# Altium integrated library BKIT_Nguyen_K22.IntLib: 34 symbols
Pins are listed as number, name and electrical type; pins without a type are passive.

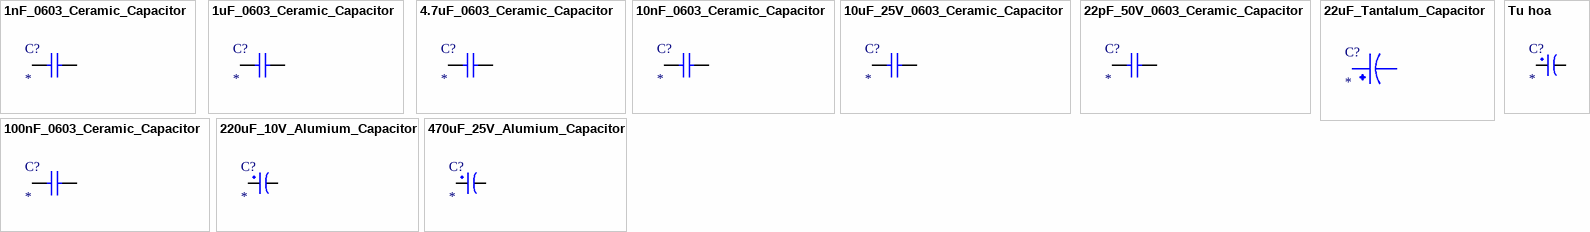
[diagram p0: symbols 1nF_0603_Ceramic_Capacitor to Tu hoa]

## 1nF_0603_Ceramic_Capacitor
designator C?
footprint CAP 0603
pins: 1, 2

## 1uF_0603_Ceramic_Capacitor
designator C?
footprint CAP 0603
pins: 1, 2

## 4.7uF_0603_Ceramic_Capacitor
designator C?
footprint CAP 0603
pins: 1, 2

## 10nF_0603_Ceramic_Capacitor
designator C?
footprint CAP 0603
pins: 1, 2

## 10uF_25V_0603_Ceramic_Capacitor
designator C?
footprint CAP 0603
pins: 1, 2

## 22pF_50V_0603_Ceramic_Capacitor
designator C?
footprint CAP 0603
pins: 1, 2

## 22uF_Tantalum_Capacitor
designator C?
footprint CAP POL 6032_280
pins: 1, 2

## 100nF_0603_Ceramic_Capacitor
designator C?
footprint CAP 0603
pins: 1, 2

## 220uF_10V_Alumium_Capacitor
designator C?
footprint CAP ALSMD 6.6MM H5.4MM (Aluminum Electrolytic Capacitor, Body 6.60x6.60x5.40mm, IPC Low Density)
pins: 1, 2

## 470uF_25V_Alumium_Capacitor
designator C?
footprint CAP ALSMD ELEC 10.3MM H10.5MM LEADSPANMAX10.9MM (Aluminum SMD Electrolytic Capacitor, 10.30mm Land Size, 10.00mm Diameter, 10.50mm Height, 10.90mm Maximum Leads Span)
pins: 1, 2

## Tu hoa
designator C?
footprint Tu Nhom 6.3 (D)
pins: 1, 2


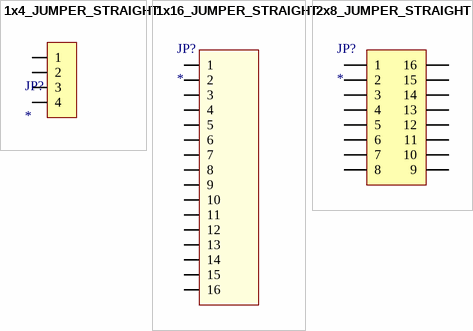
[diagram p1: symbols 1x4_JUMPER_STRAIGHT to 2x8_JUMPER_STRAIGHT]

## 1x4_JUMPER_STRAIGHT
designator JP?
footprint JP 1x4 CT
pins: 1, 2, 3, 4

## 1x16_JUMPER_STRAIGHT
designator JP?
footprint JP 1x16 CT
footprint JP 1x16 CT
pins: 1, 2, 3, 4, 5, 6, 7, 8, 9, 10, 11, 12, 13, 14, 15, 16

## 2x8_JUMPER_STRAIGHT
designator JP?
footprint JP 2X8 DT (16 pins, dual pin, straight, gold plating)
pins: 1, 2, 3, 4, 5, 6, 7, 8, 9, 10, 11, 12, 13, 14, 15, 16


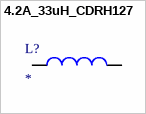
[diagram p2: symbol 4.2A_33uH_CDRH127]

## 4.2A_33uH_CDRH127
designator L?
footprint CDRH127
pins: 1, 2


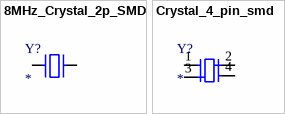
[diagram p3: symbols 8MHz_Crystal_2p_SMD to Crystal_4_pin_smd]

## 8MHz_Crystal_2p_SMD
designator Y?
footprint Thach Anh 2 Chan SMD (SMD Crystal HC49/US-SM package)
pins: 1, 2

## Crystal_4_pin_smd
designator Y?
footprint Thach Anh 4 chan 1 (SMD Crystal 4-lead leadless package)
pins: 1, 2, 3, 4


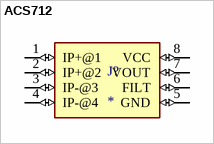
[diagram p4: symbol ACS712]

## ACS712
designator J?
Current Sensor 20A 1 Channel Hall Effect, Open Loop Bidirectional 8-SOIC (0.154, 3.90mm Width); MF: Allegro MicroSystems; MP: ACS712; SnapEDA_Link: https://www.snapeda.com/parts/ACS712/Allegro+MicroSystems+LLC/view-part/?ref=snap; Package: PowerWFQFN-12 Allegro MicroSystems LLC; Value: *; Check_prices: https://www.snapeda.com/parts/ACS712/Allegro+MicroSystems+LLC/view-part/?ref=eda
footprint SO08
pins: 1 IP+@1 (io), 2 IP+@2 (io), 3 IP-@3 (io), 4 IP-@4 (io), 5 GND (io), 6 FILT (io), 7 VOUT (io), 8 VCC (io)


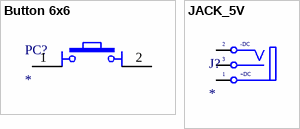
[diagram p5: symbols Button 6x6 to JACK_5V]

## Button 6x6
designator PC?
footprint Nut nhan 4 chan cam 6x6 (SW button 4pin, 250 x250 mil)
pins: 1, 2

## JACK_5V
designator J?
footprint JACK DC 5.5 (Jac DC input)
pins: 1 T "Tip", 2 TN "Tip Normal (Break Contact)", 3 S (power) "Sleeve (Ground)"
text: -DC; +DC


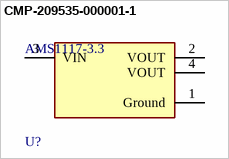
[diagram p6: symbol CMP-209535-000001-1]

## CMP-209535-000001-1
designator U?, comment AMS1117-3.3
LDO Voltage Regulators 1A, 3.3V; Manufacturer: Advanced Monolithic Systems; Dropout Voltage: 1.1V; Output Type: Fixed; Nominal Supply Current: 5mA; Max Power Dissipation: 1.2W; Max Supply Voltage: 15V; Number Of Outputs: 1; Standoff Height: 0.64mm; Max Junction Temp: +125°C; Height: 1.8mm; Package: AMS1117; Device Class L2: Power Management ICs; ComponentLink2Description: Datasheet; ComponentLink2URL: http://www.advanced-monolithic.com/pdf/ds1117.pdf; Category: IC; RoHS: TRUE; Automotive: No; Device Class L1: Integrated Circuits (ICs); Output Current: 1A; Device Class L3: Voltage Regulators - Linear; Temperature: -40°C to +125°C; Output Voltage: 3.3V; Manufacturer Part Number: AMS1117-3.3; Temperature Range Low: -40°C; Octopart: https://octopart.com/ams1117-3.3-advanced+monolithic+systems-25899300; Lead Free: Yes; Ipc Land Pattern Name: SOT229P700X180-4; Temperature Range High: +125°C
footprint FP-AMS1117-IPC_A
footprint FP-AMS1117-IPC_B
footprint FP-AMS1117-IPC_C
pins: 1 Ground (power), 2 VOUT, 3 VIN (power), 4 VOUT


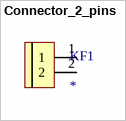
[diagram p7: symbol Connector_2_pins]

## Connector_2_pins
designator KF1
footprint CON2_P196_1729128_TH_ST (Terminal Block)
pins: 1, 2


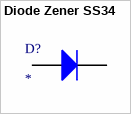
[diagram p8: symbol Diode Zener SS34]

## Diode Zener SS34
designator D?
footprint CAPMP4226X24N (Molded Capacitor, 2-Leads, Body 4.25x2.60mm, IPC Medium Density)
pins: 1, 2


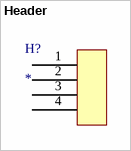
[diagram p9: symbol Header]

## Header
designator H?
footprint Header 1x4 male (2.54mm)
pins: 1, 2, 3, 4


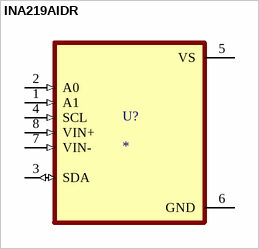
[diagram p10: symbol INA219AIDR]

## INA219AIDR
designator U?
26-V 12-bit I2C output digital power monitor; MF: Texas Instruments; MP: INA219AIDR; SnapEDA_Link: https://www.snapeda.com/parts/INA219AIDR/Texas+Instruments/view-part/?ref=snap; Package: SOIC-8 Texas Instruments; Value: *; Check_prices: https://www.snapeda.com/parts/INA219AIDR/Texas+Instruments/view-part/?ref=eda
footprint SOIC127P599X175-8N
pins: 1 A1 (in), 2 A0 (in), 3 SDA (io), 4 SCL (in), 5 VS (power), 6 GND (power), 7 VIN- (in), 8 VIN+ (in)


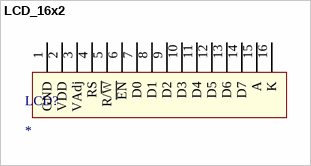
[diagram p11: symbol LCD_16x2]

## LCD_16x2
designator LCD?
footprint LCD1602 with Jump (LCD dipslay 16x2, 16 pin)
pins: 1 GND, 2 VDD, 3 VAdj, 4 RS, 5 R/~{W}, 6 ~{EN}, 7 D0, 8 D1, 9 D2, 10 D3, 11 D4, 12 D5, 13 D6, 14 D7, 15 A, 16 K


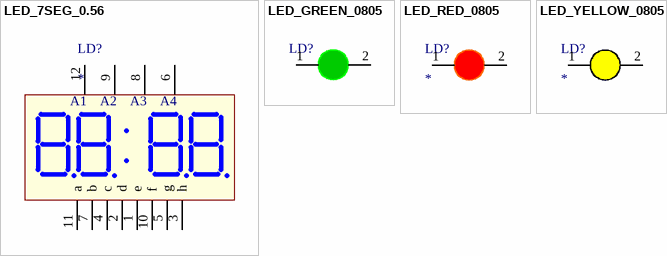
[diagram p12: symbols LED_7SEG_0.56 to LED_YELLOW_0805]

## LED_7SEG_0.56
designator LD?
footprint LED 7x4 0.56
pins: 1 e, 2 d, 3 h, 4 c, 5 g, 6 V4, 7 b, 8 V3, 9 V2, 10 f, 11 a, 12 V1
text: A1; A2; A3; A4

## LED_GREEN_0805
designator LD?  (value not drawn)
footprint LED-0805-Green
pins: 1 A, 2 K

## LED_RED_0805
designator LD?
footprint LED-0805-Red
pins: 1 A, 2 K

## LED_YELLOW_0805
designator LD?
footprint LED-0805-Yellow
pins: 1 A, 2 K


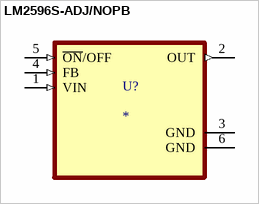
[diagram p13: symbol LM2596S-ADJ/NOPB]

## LM2596S-ADJ/NOPB
designator U?
SIMPLE SWITCHERÂ® 4.5V to 40V, 3A Low Component Count Step-Down Regulator; MF: Texas Instruments; MP: LM2596S-ADJ/NOPB; SnapEDA_Link: https://www.snapeda.com/parts/LM2596S-ADJ/NOPB/Texas+Instruments/view-part/?ref=snap; Package: TO-263-5 Texas Instruments; Value: *; Check_prices: https://www.snapeda.com/parts/LM2596S-ADJ/NOPB/Texas+Instruments/view-part/?ref=eda
footprint VREG_LM2596S-ADJ/NOPB
pins: 1 VIN (in), 2 OUT (out), 3 GND (power), 4 FB (in), 5 ~{ON}/OFF (in), 6 GND (power)


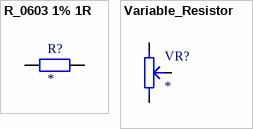
[diagram p14: symbols R_0603 1% 1R to Variable_Resistor]

## R_0603 1% 1R
designator R?
footprint TRO SMD 0603 (Chip Capacitor, 2-Leads, Body 1,60x0,80mm, IPC Medium Density)
pins: 1, 2

## Variable_Resistor
designator VR?
footprint Bien Tro Tam Giac Dung (RM065)
pins: 1, 2, 3


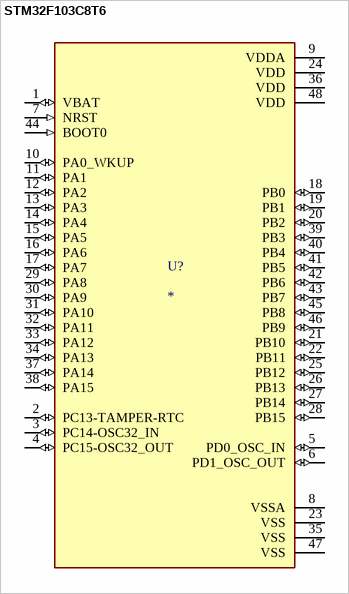
[diagram p15: symbol STM32F103C8T6]

## STM32F103C8T6
designator U?
ARM® Cortex®-M3 STM32F1 Microcontroller IC 32-Bit 72MHz 64KB (64K x 8) FLASH 48-LQFP (7x7); MF: STMicroelectronics; MP: STM32F103C8T6; SnapEDA_Link: https://www.snapeda.com/parts/STM32F103C8T6/STMicroelectronics/view-part/?ref=snap; Package: LQFP-48 STMicroelectronics; Value: *; Check_prices: https://www.snapeda.com/parts/STM32F103C8T6/STMicroelectronics/view-part/?ref=eda
footprint QFP50P900X900X160-48N
pins: 1 VBAT (io), 2 PC13-TAMPER-RTC (io), 3 PC14-OSC32_IN (io), 4 PC15-OSC32_OUT (io), 5 PD0_OSC_IN (io), 6 PD1_OSC_OUT (io), 7 NRST (in), 8 VSSA (power), 9 VDDA (power), 10 PA0_WKUP (io), 11 PA1 (io), 12 PA2 (io), 13 PA3 (io), 14 PA4 (io), 15 PA5 (io), 16 PA6 (io), 17 PA7 (io), 18 PB0 (io), 19 PB1 (io), 20 PB2 (io), 21 PB10 (io), 22 PB11 (io), 23 VSS (power), 24 VDD (power), 25 PB12 (io), 26 PB13 (io), 27 PB14 (io), 28 PB15 (io), 29 PA8 (io), 30 PA9 (io), 31 PA10 (io), 32 PA11 (io), 33 PA12 (io), 34 PA13 (io), 35 VSS (power), 36 VDD (power), 37 PA14 (io), 38 PA15 (io), 39 PB3 (io), 40 PB4 (io), 41 PB5 (io), 42 PB6 (io), 43 PB7 (io), 44 BOOT0 (in), 45 PB8 (io), 46 PB9 (io), 47 VSS (power), 48 VDD (power)